# EAGLE library part ADS1013 (library KylePile)
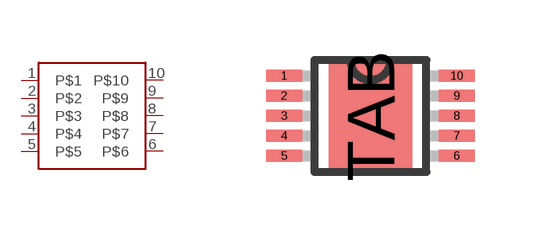
[diagram p2: symbol with the pads of MSOP-10; footprint MSOP-10]

Designator prefix -

## ADS1013  [MSOP-10]
1  P$1
2  P$2
3  P$3
4  P$4
5  P$5
6  P$6
7  P$7
8  P$8
9  P$9
10  P$10

## Footprint MSOP-10 (pad centres in mm)
smd 0.9 x 0.3: 1 -2.16,1; 2 -2.16,0.5; 3 -2.16,0; 4 -2.16,-0.5; 5 -2.16,-1; 6 2.16,-1; 7 2.16,-0.5; 8 2.16,0; 9 2.16,0.5; 10 2.16,1
smd 2.083 x 2.794: TAB 0,0